# Altium schematic symbol library NewSwitch.SchLib: 1 symbol
Pins are listed as number, name and electrical type; pins without a type are passive.

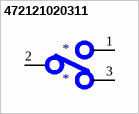
[diagram p0: symbol 472121020311]

## 472121020311
designator *
WS-TOTV Toggle Switch; Manufacturer: Wurth Electronics; Manufacturer Part Number: 472121020311; Supplier: Farnell; Supplier Part Number: 4244943; RoHS: No; Category: Toggle Switches; Stock: 52; Pricing: 1=5.73, 5=5.33, 10=5.04, 20=4.7, 50=4.35 (EUR)
footprint Switch - duplicate
pins: 1, 2, 3